# Altium schematic symbol library BSS138LT1G.SchLib: 1 symbol
Pins are listed as number, name and electrical type; pins without a type are passive.

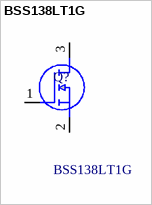
[diagram p0: symbol BSS138LT1G]

## BSS138LT1G
designator Q?
Low Threshold Voltage; Miniature SOT-23 Surface Mount Package; RoHS Compliant; Manufacturer_Name: onsemi; Geometry.Height: 1.11mm; Manufacturer_Part_Number: BSS138LT1G; Mouser Part Number: 863-BSS138LT1G; Mouser Price/Stock: https://www.mouser.co.uk/ProductDetail/onsemi/BSS138LT1G?qs=vNc2DXHODiKPZ2y3rQhTYQ%3D%3D; Arrow Part Number: BSS138LT1G; Arrow Price/Stock: https://www.arrow.com/en/products/bss138lt1g/on-semiconductor?utm_currency=USD&region=europe; Datasheet Link: https://www.onsemi.com/pub/Collateral/BSS138LT1-D.PDF
footprint SOT96P237X111-3N
pins: 1 G, 2 S, 3 D